# Altium footprint library PcbLib_ADH.PcbLib: 136 footprints (part 5 of 9)
Each footprint in its own frame and in the unit in brackets; x right, y up, seen from the top. Pads: shape width x height; smd on the part's side, far side on the other; paste and mask are expansions set on the pad; w line width, h text height; cw(c..) or ccw(c..) is an arc to the next point about the centre after c.
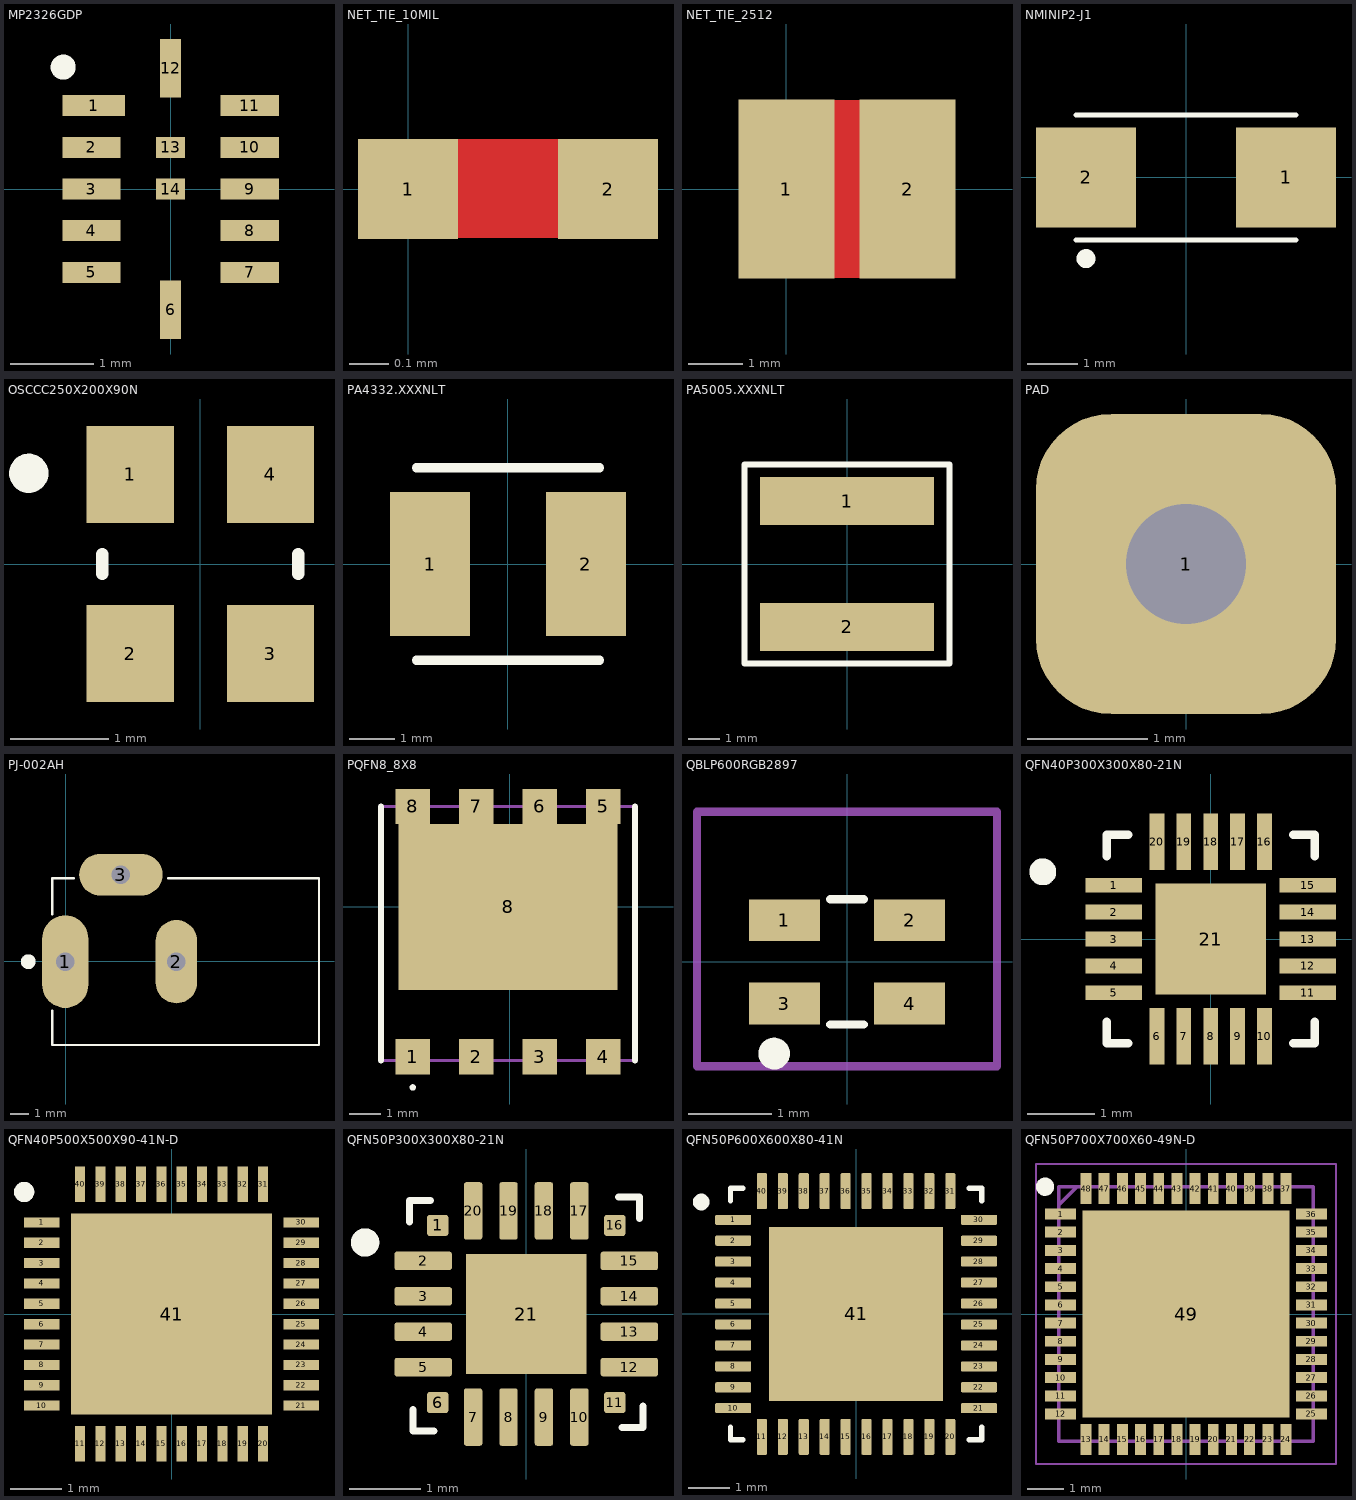
[diagram p4: the footprints below, top view; thin cyan lines are the x and y axes]

## MP2326GDP [mm]
pads (14):
  rect 0.75x0.25 smd: 1(-0.925,1)
  rect 0.7x0.25 smd: 2(-0.95,0.5) 3(-0.95,0) 4(-0.95,-0.5) 5(-0.95,-1) 7(0.95,-1) 8(0.95,-0.5) 9(0.95,0) 10(0.95,0.5) 11(0.95,1)
  rect 0.25x0.7 smd: 6(0,-1.45) 12(0,1.45)
  rect 0.35x0.25 smd: 13(0,0.5) 14(0,0)
Top Overlay:
  circle w0.2: c-1.288,1.462 r0.05
3D body "MP2326GD-P.stp": height 1.1, standoff 0, extent -1,-1.5 1,1.5

## NET_TIE_10MIL [mil]
pads (2):
  rect 10x10 smd paste+0 mask+4: 1(0,0) 2(20,0)
Top Layer:
  rectangle: -0.4,-4.92 20,5

## NET_TIE_2512 [mm]
pads (2):
  rect 1.78x3.31 smd: 1(0,0) 2(2.25,0)
Top Layer:
  rectangle: 0.725,-1.65 1.6,1.65

## NMINIP2-J1 [mm]
pads (2):
  rect 2x2 smd: 1(2,0) 2(-2,0)
Top Overlay:
  circle w0.2: c-2,-1.625 r0.09
  lines w0.1: -2.2,-1.25 2.2,-1.25 ; -2.2,1.25 2.2,1.25
3D body "MA2Q705--3DModel-STEP-269445.STEP": height 2.36, standoff -0.09, extent -2.5,-1.25 2.499,1.25

## OSCCC250X200X90N [mm]
height 0.9
pads (4):
  rect 0.89x0.99 smd: 1(-0.715,0.915) 2(-0.715,-0.915) 3(0.715,-0.915) 4(0.715,0.915)
Top Overlay:
  circle w0.2: c-1.75,0.925 r0.1
  lines w0.127: -1,-0.1 -1,0.1 ; 1,-0.1 1,0.1
3D body "step_temp.STEP": height 0.9, standoff 0, extent -1,-1.25 1,1.25

## PA4332.XXXNLT [mm]
pads (2):
  rect 1.75x3.15 smd: 1(-1.7,0) 2(1.7,0)
Top Overlay:
  lines w0.2: -2,-2.1 2,-2.1 ; -2,2.1 2,2.1
3D body "PA4332.STEP": height 2.02, standoff 0.02, extent -2,-2 2,2

## PA5005.XXXNLT [mm]
pads (2):
  rect 5.6x1.55 smd: 1(0,2.025) 2(0,-2.025)
Top Overlay:
  lines w0.2: -3.3,-3.2 3.3,-3.2 3.3,3.2 -3.3,3.2 -3.3,-3.2
3D body "PA5005.122NLT.stp": height 5.1, standoff 0, extent -3.3,-3.2 3.3,3.2

## PAD [mm]
pads (1):
  rrect50% 2.5x2.5 hole 1: 1(0,0)

## PJ-002AH [mm]
pads (3):
  oval 2.5x5 hole 1 square: 1(-0.025,-0.025)
  oval 2.25x4.5 hole 1 square: 2(5.975,-0.025)
  oval 4.5x2.25 hole 1 square: 3(2.975,4.675)
Top Overlay:
  circle w0.4: c-2.025,-0.025 r0.2
  lines w0.127: -0.725,-2.675 -0.725,-4.525 13.675,-4.525 13.675,4.475 5.525,4.475 ; -0.725,2.525 -0.725,4.475 0.425,4.475
3D body "CUI_DEVICES_PJ-002AH.step": height 11.01, standoff -3.48, extent -0.725,-4.55 13.675,4.85

## PQFN8_8X8 [mm]
pads (9):
  rect 1.1x1.13 smd: 1(-3.05,-4.72) 2(-1.05,-4.72) 3(0.95,-4.72) 4(2.95,-4.72)
  rect 1.1x1.1 smd: 5(2.95,3.165) 6(0.95,3.165) 7(-1.05,3.165) 8(-3.05,3.165)
  rect 6.9x5.23 smd: 8(-0.05,0)
Top Overlay:
  lines w0.1: -3.05,-5.735 ccw(c-3.05,-5.685) -3.05,-5.635 ccw(c-3.05,-5.685) -3.05,-5.735
  lines w0.2: -4.05,-4.835 -4.05,3.165 ; 3.95,-4.835 3.95,3.165
Mechanical 13:
  lines w0.1: -4.05,-4.835 -4.05,3.165 3.95,3.165 3.95,-4.835 -4.05,-4.835
3D body "FDMT1D3N08B.stp": height 1.05, standoff 0, extent -4.05,-5.175 3.95,3.605

## QBLP600RGB2897 [mm]
pads (4):
  rect 0.85x0.5 smd: 1(-0.75,0.5) 2(0.75,0.5) 3(-0.75,-0.5) 4(0.75,-0.5)
Top Overlay:
  circle w0.2: c-0.875,-1.1 r0.09
  lines w0.1: -0.2,-0.75 0.2,-0.75 ; -0.2,0.75 0.2,0.75
Mechanical 20:
  lines w0.1: -1.8,-1.25 -1.8,1.8 1.8,1.8 1.8,-1.25 -1.8,-1.25
3D body "QBLP600_BI_TRI.step": height 0.8, standoff 0, extent -0.8,-0.75 0.8,0.75

## QFN40P300X300X80-21N [mm]
pads (21):
  rect 0.84x0.22 smd: 1(-1.445,0.8) 2(-1.445,0.4) 3(-1.445,0) 4(-1.445,-0.4) 5(-1.445,-0.8) 11(1.445,-0.8) 12(1.445,-0.4) 13(1.445,0) 14(1.445,0.4) 15(1.445,0.8)
  rect 0.22x0.84 smd: 6(-0.8,-1.445) 7(-0.4,-1.445) 8(0,-1.445) 9(0.4,-1.445) 10(0.8,-1.445) 16(0.8,1.445) 17(0.4,1.445) 18(0,1.445) 19(-0.4,1.445) 20(-0.8,1.445)
  rect 1.65x1.65 smd paste-0.225: 21(0,0)
Top Overlay:
  circle w0.2: c-2.5,1 r0.1
  lines w0.127: -1.55,-1.23 -1.55,-1.55 -1.23,-1.55 ; -1.55,1.23 -1.55,1.55 -1.23,1.55 ; 1.23,-1.55 1.55,-1.55 1.55,-1.23 ; 1.23,1.55 1.55,1.55 1.55,1.23
3D body "QFN-20_UD_LIT.step": height 0.8, standoff 0, extent -1.55,-1.55 1.55,1.55

## QFN40P500X500X90-41N-D [mm]
pads (41):
  rect 0.7x0.2 smd: 1(-2.55,1.8) 2(-2.55,1.4) 3(-2.55,1) 4(-2.55,0.6) 5(-2.55,0.2) 6(-2.55,-0.2) 7(-2.55,-0.6) 8(-2.55,-1) 9(-2.55,-1.4) 10(-2.55,-1.8) 21(2.55,-1.8) 22(2.55,-1.4) 23(2.55,-1) 24(2.55,-0.6) 25(2.55,-0.2) 26(2.55,0.2) 27(2.55,0.6) 28(2.55,1) 29(2.55,1.4) 30(2.55,1.8)
  rect 0.2x0.7 smd: 11(-1.8,-2.55) 12(-1.4,-2.55) 13(-1,-2.55) 14(-0.6,-2.55) 15(-0.2,-2.55) 16(0.2,-2.55) 17(0.6,-2.55) 18(1,-2.55) 19(1.4,-2.55) 20(1.8,-2.55) 31(1.8,2.55) 32(1.4,2.55) 33(1,2.55) 34(0.6,2.55) 35(0.2,2.55) 36(-0.2,2.55) 37(-0.6,2.55) 38(-1,2.55) 39(-1.4,2.55) 40(-1.8,2.55)
  rect 3.95x3.95 smd: 41(0,0)
Top Overlay:
  circle w0.2: c-2.9,2.4 r0.1
3D body "RTL8211F-CG.stp": height 0.9, standoff 0, extent -2.55,-2.55 2.55,2.55

## QFN50P300X300X80-21N [mm]
pads (21):
  rrect25% 0.3x0.3 smd: 1(-1.25,1.25) 6(-1.25,-1.25) 11(1.25,-1.25) 16(1.25,1.25)
  rrect25% 0.81x0.26 smd: 2(-1.455,0.75) 3(-1.455,0.25) 4(-1.455,-0.25) 5(-1.455,-0.75) 12(1.455,-0.75) 13(1.455,-0.25) 14(1.455,0.25) 15(1.455,0.75)
  rrect25% 0.26x0.81 smd: 7(-0.75,-1.455) 8(-0.25,-1.455) 9(0.25,-1.455) 10(0.75,-1.455) 17(0.75,1.455) 18(0.25,1.455) 19(-0.25,1.455) 20(-0.75,1.455)
  rect 1.7x1.7 smd paste-2: 21(0,0)
Top Overlay:
  circle w0.2: c-2.275,1.01 r0.1
  lines w0.1: -1.65,1.3 -1.65,1.6 -1.35,1.6 ; -1.6,-1.35 -1.6,-1.65 -1.3,-1.65 ; 1.3,1.65 1.6,1.65 1.6,1.35 ; 1.35,-1.6 1.65,-1.6 1.65,-1.3
Top Paste:
  region: 0.54,-0.541 -0.541,-0.541 -0.541,0.54 0.54,0.54
3D body "EFM8SB10F2G-A-QFN20R.STEP": height 0.81, standoff 0.01, extent -1.5,-1.5 1.5,1.5

## QFN50P600X600X80-41N [mm]
pads (41):
  rrect25% 0.86x0.24 smd: 1(-2.935,2.25) 2(-2.935,1.75) 3(-2.935,1.25) 4(-2.935,0.75) 5(-2.935,0.25) 6(-2.935,-0.25) 7(-2.935,-0.75) 8(-2.935,-1.25) 9(-2.935,-1.75) 10(-2.935,-2.25) 21(2.935,-2.25) 22(2.935,-1.75) 23(2.935,-1.25) 24(2.935,-0.75) 25(2.935,-0.25) 26(2.935,0.25) 27(2.935,0.75) 28(2.935,1.25) 29(2.935,1.75) 30(2.935,2.25)
  rrect25% 0.24x0.86 smd: 11(-2.25,-2.935) 12(-1.75,-2.935) 13(-1.25,-2.935) 14(-0.75,-2.935) 15(-0.25,-2.935) 16(0.25,-2.935) 17(0.75,-2.935) 18(1.25,-2.935) 19(1.75,-2.935) 20(2.25,-2.935) 31(2.25,2.935) 32(1.75,2.935) 33(1.25,2.935) 34(0.75,2.935) 35(0.25,2.935) 36(-0.25,2.935) 37(-0.75,2.935) 38(-1.25,2.935) 39(-1.75,2.935) 40(-2.25,2.935)
  rect 4.15x4.15 smd paste-3: 41(0,0)
Top Overlay:
  circle w0.2: c-3.7,2.675 r0.1
  lines w0.127: -3,-2.7 -3,-3 -2.7,-3 ; -3,2.7 -3,3 -2.7,3 ; 2.7,-3 3,-3 3,-2.7 ; 2.7,3 3,3 3,2.7
Top Paste:
  region: 1.705,-1.705 0.385,-1.705 0.385,-0.385 1.705,-0.385
  region: -0.375,-1.705 -1.695,-1.705 -1.695,-0.385 -0.375,-0.385
  region: 1.705,0.375 0.385,0.375 0.385,1.695 1.705,1.695
  region: -0.375,0.375 -1.695,0.375 -1.695,1.695 -0.375,1.695
3D body "step_temp.STEP": height 0.8, standoff 0, extent -3,-3 3,3

## QFN50P700X700X60-49N-D [mm]
pads (49):
  rect 0.85x0.3 smd: 1(-3.45,2.75) 2(-3.45,2.25) 3(-3.45,1.75) 4(-3.45,1.25) 5(-3.45,0.75) 6(-3.45,0.25) 7(-3.45,-0.25) 8(-3.45,-0.75) 9(-3.45,-1.25) 10(-3.45,-1.75) 11(-3.45,-2.25) 12(-3.45,-2.75) 25(3.45,-2.75) 26(3.45,-2.25) 27(3.45,-1.75) 28(3.45,-1.25) 29(3.45,-0.75) 30(3.45,-0.25) 31(3.45,0.25) 32(3.45,0.75) 33(3.45,1.25) 34(3.45,1.75) 35(3.45,2.25) 36(3.45,2.75)
  rect 0.3x0.85 smd: 13(-2.75,-3.45) 14(-2.25,-3.45) 15(-1.75,-3.45) 16(-1.25,-3.45) 17(-0.75,-3.45) 18(-0.25,-3.45) 19(0.25,-3.45) 20(0.75,-3.45) 21(1.25,-3.45) 22(1.75,-3.45) 23(2.25,-3.45) 24(2.75,-3.45) 37(2.75,3.45) 38(2.25,3.45) 39(1.75,3.45) 40(1.25,3.45) 41(0.75,3.45) 42(0.25,3.45) 43(-0.25,3.45) 44(-0.75,3.45) 45(-1.25,3.45) 46(-1.75,3.45) 47(-2.25,3.45) 48(-2.75,3.45)
  rect 5.7x5.7 smd: 49(0,0)
Top Overlay:
  circle w0.25: c-3.875,3.5 r0.125
Mechanical 15:
  lines w0.1: -3.5,3 -3,3.5 ; -3.5,-3.5 -3.5,3.5 3.5,3.5 3.5,-3.5 -3.5,-3.5
Mechanical 20:
  lines w0.05: -4.125,-4.125 -4.125,4.125 4.125,4.125 4.125,-4.125 -4.125,-4.125
3D body "STM32G474CEU6.stp": height 0.6, standoff 0, extent -3.55,-3.55 3.55,3.55